# Altium schematic symbol library Schlib1.SchLib: 25 symbols
Pins are listed as number, name and electrical type; pins without a type are passive.

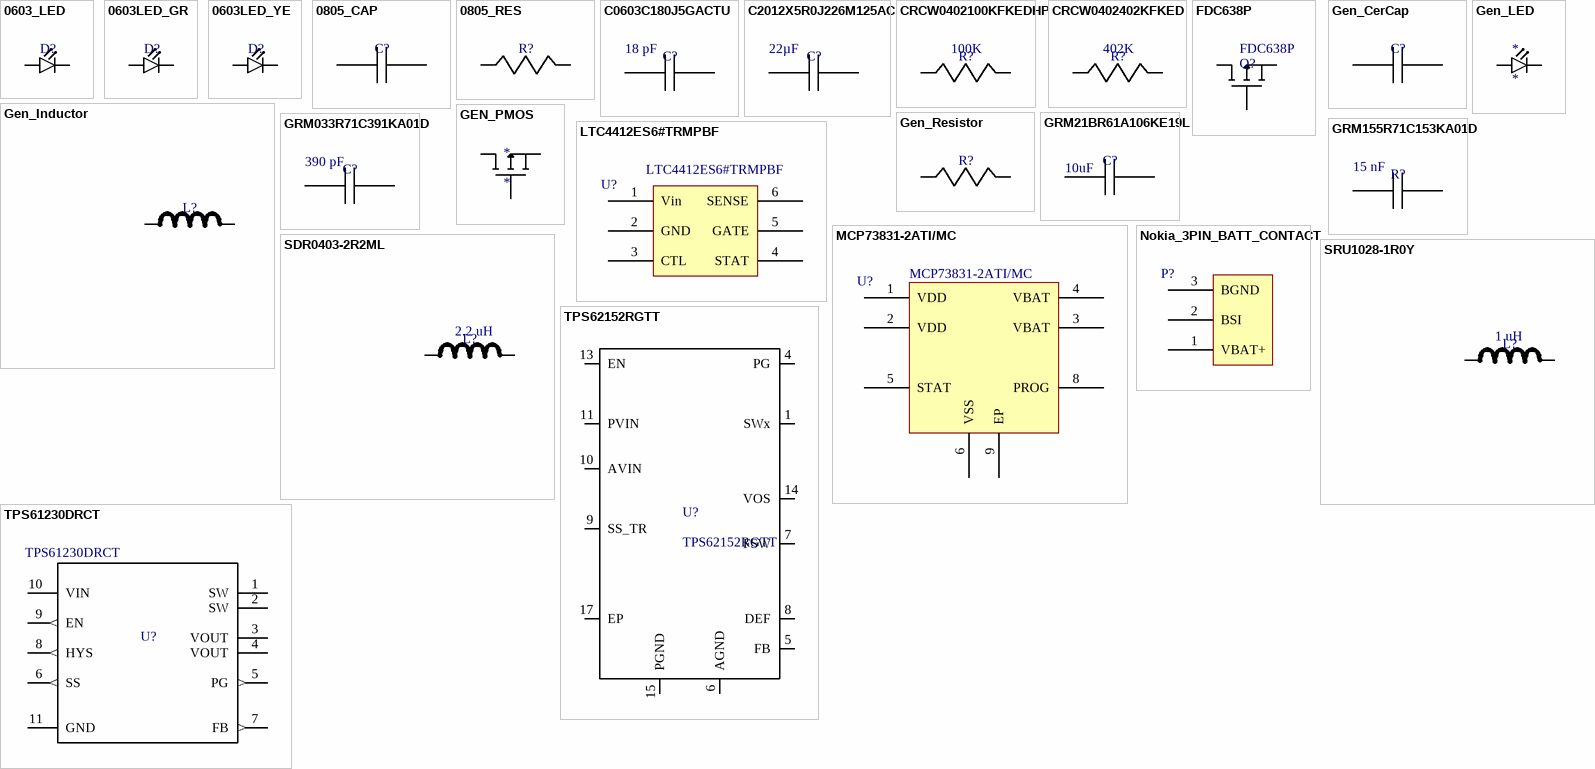
[diagram p0: symbols 0603_LED to TPS62152RGTT]

## 0603_LED
designator D?  (value not drawn)
footprint 0603 _DIODE
pins: 1 A, 2 C

## 0603LED_GR
designator D?  (value not drawn)
footprint 0603 _DIODE_GR
pins: 1, 2

## 0603LED_YE
designator D?  (value not drawn)
footprint 0603 _DIODE_YE
pins: 1, 2

## 0805_CAP
designator C?  (value not drawn)
=Value: *
footprint 0805_CAP
pins: 1, 2

## 0805_RES
designator R?  (value not drawn)
footprint 0805_RES
pins: 1, 2

## C0603C180J5GACTU
designator C?  Capaciteit: 18 pF  (hidden comment: *)
Meerlaagse keramische condensatoren MLCC - SMD/SMT 50volts 18pF C0G 5%; Manufacturer: Kemet; Manufacturer Part Number: C0603C180J5GACTU; Bedrijfstemperatuurbereik: - 55 C to + 125 C; Verpakking / doos: 0603 (1608 metric); Verpakken: Reel; Reeks: C0603C; Type: C0G Dielectric, Commercial; Nominale spanning: 50 V; Code behuizing - in: 0603; Code behuizing - mm: 1608; Hoogte behuizing: 0.8 mm; Lengte behuizing: 1.6 mm; Klasse: 1; Diëlectrisch: C0G (NP0); Verliesfactor DF: 0.5; Afstand tussen de draden: 0.7 mm; Maximale bedrijfstemperatuur: + 125 C; Minimale bedrijfstemperatuur: - 55 C; Productcategorie: 0603 SMD Ceramic Chip Capacitors; Standaard pakket hoeveelheid: 4000; Temperatuur Coëfficiënt / Code: +/- 30 PPM / C; Supplier 1: Mouser; Supplier Part Number 1: 80-C0603C180J5G; RoHS: RoHS Compliant; Category: Meerlaagse keramische condensatoren MLCC - SMD/SMT; Stock 1: 190281; Pricing 1: 1=0.080, 10=0.014, 100=0.010, 1000=0.006, 4000=0.006, 8000=0.005, 48000=0.004, 100000=0.003 (EUR); Product: General Type MLCCs; Klemtype: SMD/SMT; Tolerantie: 5 %; Nominale spanning DC: 50 V; Merk: Kemet; Breedte behuizing: 0.8 mm; Fabrikant: Kemet; RoHS - Mouser: Y; Minimum Order Quantity: 1; Reeling: True; ComponentLink1URL: http://www.kemet.com/kemet/web/homepage/kechome.nsf/vapubfiles/KEM_C1003_C0G_SMD.pdf/$file/KEM_C1003_C0G_SMD.pdf; ComponentLink1Description: http://www.kemet.com/kemet/web/homepage/kechome.nsf/vapubfiles/KEM_C1003_C0G_SMD.pdf/$file/KEM_C1003_C0G_SMD.pdf
footprint 0603_CAP
pins: 1, 2

## C2012X5R0J226M125AC
designator C?  Capacitance: 22µF  (hidden comment: *)
CAP CER 22UF 6.3V 20% X5R 0805; Manufacturer: TDK Corporation; Manufacturer Part Number: C2012X5R0J226M125AC; Supplier 1: Digi-Key; Supplier Part Number 1: 445-1422-1-ND; RoHS: RoHS Compliant; Category: Capacitors; Stock 1: 147939; Pricing 1: 1=0.24, 10=0.204, 100=0.1021, 250=0.07656, 500=0.06762, 1000=0.05878 (EUR); Packaging: Cut Tape (CT); Tolerance: ±20%; Voltage - Rated: 6.3V; Temperature Coefficient: X5R; Mounting Type: Surface Mount, MLCC; Operating Temperature: -55°C ~ 85°C; Applications: General Purpose; Ratings: -; Package / Case: 0805 (2012 Metric); Size / Dimension: 0.079" L x 0.049" W (2.00mm x 1.25mm); Height - Seated (Max): -; Thickness (Max): 0.057" (1.45mm); Lead Spacing: -; Features: -; Lead Style: -; ComponentLink1URL: http://product.tdk.com/en/catalog/datasheets/mlcc_commercial_general_en.pdf; ComponentLink1Description: http://product.tdk.com/en/catalog/datasheets/mlcc_commercial_general_en.pdf
footprint 0805_CAP
pins: 1, 2

## CRCW0402100KFKEDHP
designator R?  Resistance: 100K  (hidden comment: *)
VISHAY DRALORIC - CRCW0402100KFKEDHP - RESISTOR, POWER, 100K, 0.125W, 1%; Product Range: VISHAY - CRCW Series; Power Rating: 125; Resistor Case Style: 0402 [1005 Metric]; Resistor Element Material: Thick Film; Temperature Coefficient: ± 100; Voltage Rating: 50; SVHC: No SVHC (16-Dec-2013); External Width: 1; Resistor Mounting: SMD<!--FANDB--><div class="features-and-benefits-container"></div>; Supplier 1: Farnell; Supplier Part Number 1: 1738877; Manufacturer: VISHAY DRALORIC; RoHS: Y-EX; Stock 1: 20841; Pricing 1: 25=0.032, 100=0.024, 500=0.016, 1000=0.011, 10000=0.008 (EUR); Resistance Tolerance: ± 1%; Packaging: Cut Tape; MSL: MSL 1 - Unlimited; ComponentLink1URL: http://www.farnell.com/datasheets/1703058.pdf; ComponentLink1Description: http://www.farnell.com/datasheets/1703058.pdf; Manufacturer Part Number: CRCW0402100KFKEDHP
footprint 0402_RES
pins: 1, 2

## CRCW0402402KFKED
designator R?  Resistance: 402K  (hidden comment: *)
VISHAY DRALORIC - CRCW0402402KFKED - RESISTOR, 0402, 402K, 1%; Product Range: VISHAY - CRCW Series; Power Rating: 63; Resistor Case Style: 0402 [1005 Metric]; Resistor Element Material: Thick Film; Temperature Coefficient: ± 100; Voltage Rating: 50; SVHC: No SVHC (16-Dec-2013); Resistor Mounting: SMD<!--FANDB--><div class="features-and-benefits-container"></div>; Supplier 1: Farnell; Supplier Part Number 1: 2140992; Manufacturer: VISHAY DRALORIC; RoHS: Y-EX; Stock 1: 14699; Pricing 1: 50=0.005, 250=0.004, 500=0.003, 1000=0.002, 5000=0.0014 (EUR); Resistance Tolerance: ± 1%; Packaging: Cut Tape; MSL: MSL 1 - Unlimited; ComponentLink1URL: http://www.farnell.com/datasheets/1697337.pdf; ComponentLink1Description: http://www.farnell.com/datasheets/1697337.pdf; Manufacturer Part Number: CRCW0402402KFKED
footprint 0402_RES
pins: 1, 2

## FDC638P
designator Q?  Manufacturer Part Number: FDC638P  (hidden comment: *)
MOSFET SSOT-6 P-CH -20V; Manufacturer: Fairchild Semiconductor; Configuratie: Single Quad Drain; Verpakken: Reel; Voorwaartse transconductantie - min: 15 S; Montagetype: SMD/SMT; Polariteit transistor: P-Channel; Kanaalmodus: Enhancement; Daaltijd: 9 ns; Id - Continue afvoerstroom: 4.5 A; Maximale bedrijfstemperatuur: + 150 C; Minimale bedrijfstemperatuur: - 55 C; Pd - Vermogensverlies: 1.6 W; Rds On - Druppelbronweerstand: 48 mOhms; Standaard pakket hoeveelheid: 3000; Typische uitschakelvertragingstijd: 33 ns; Vgs - Doorslagspanning van ingangsbron: 12 V; Product Status: New Product; Supplier 1: Mouser; Supplier Part Number 1: 512-FDC638P; RoHS: RoHS Compliant; Category: MOSFET; Stock 1: 2304; Pricing 1: 1=0.400, 10=0.272, 100=0.180, 1000=0.139, 3000=0.117, 9000=0.113, 24000=0.107, 45000=0.105 (EUR); Verpakking / doos: SSOT-6; Reeks: FDC638P; Merk: Fairchild Semiconductor; Fabrikant: Fairchild Semiconductor; Stijgtijd: 9 ns; Vds - Doorslagspanning van druppelbron: - 20 V; RoHS - Mouser: Y; Minimum Order Quantity: 1; Reeling: True; ComponentLink1URL: http://www.mouser.com/ds/2/149/FDC638P-103274.pdf; ComponentLink1Description: http://www.mouser.com/ds/2/149/FDC638P-103274.pdf
footprint FDC638P
pins: 1 D, 2 G, 3 S

## Gen_CerCap
designator C?  (value not drawn)
pins: 1, 2

## Gen_Inductor
designator L?  (value not drawn)
pins: 1, 2

## Gen_LED
designator *
pins: 1, 2

## GEN_PMOS
designator *
pins: 1 D, 2 G, 3 S

## Gen_Resistor
designator R?  (value not drawn)
pins: 1, 2

## GRM21BR61A106KE19L
designator C?  Capacitance: 10uF  (hidden comment: *)
MURATA - GRM21BR61A106KE19L - CAPACITOR, CERA, 10UF, 10%, 10V, 10%, SMD; Product Range: MURATA - GRM Series; Dielectric Characteristic: X5; Voltage Rating: 10; Ceramic Capacitor Case: 0805 ^2012 Metric]; Supplier 1: Farnell; Supplier Part Number 1: 2396552; Manufacturer: MURATA; RoHS: YES; Stock 1: 20106; Pricing 1: 1=0.042, 250=0.039, 500=0.034, 1000=0.031, 5000=0.022 (EUR); Capacitance Tolerance: ± 10%; MSL: -; ComponentLink1URL: http://www.farnell.com/datasheets/608985.pdf; ComponentLink1Description: http://www.farnell.com/datasheets/608985.pdf; Manufacturer Part Number: GRM21BR61A106KE19L
footprint 0805_CAP
pins: 1, 2

## GRM033R71C391KA01D
designator C?  Capaciteit: 390 pF  (hidden comment: *)
Meerlaagse keramische condensatoren MLCC - SMD/SMT 390pF 16 volts 10%; Manufacturer: Murata Electronics; Manufacturer Part Number: GRM033R71C391KA01D; Bedrijfstemperatuurbereik: - 55 C to + 125 C; Verpakking / doos: 0201 (0603 metric); Verpakken: Reel; Reeks: GRM; Type: General Purpose MLCC; Nominale spanning: 16 V; Code behuizing - in: 0201; Hoogte behuizing: 0.3 mm; Lengte behuizing: 0.6 mm; Diëlectrisch: X7R; Fabrikant: Murata; Maximale bedrijfstemperatuur: + 125 C; Minimale bedrijfstemperatuur: - 55 C; Standaard pakket hoeveelheid: 15000; Temperatuur Coëfficiënt / Code: +/- 15 %; Code behuizing - mm: 0603; Supplier 1: Mouser; Supplier Part Number 1: 81-GRM033R71C391KA1D; RoHS: RoHS Compliant; Category: Meerlaagse keramische condensatoren MLCC - SMD/SMT; Stock 1: 6120; Pricing 1: 1=0.088, 10=0.011, 100=0.006, 1000=0.005, 2500=0.004, 10000=0.003, 15000=0.003 (EUR); Product: General Type MLCCs; Klemtype: SMD/SMT; Tolerantie: 10 %; Nominale spanning DC: 16 V; Merk: Murata Electronics; Breedte behuizing: 0.3 mm; RoHS - Mouser: Y; Minimum Order Quantity: 1; Reeling: True; ComponentLink1URL: http://psearch.murata.com/capacitor/product/GRM033R71C391KA01%23.pdf; ComponentLink1Description: http://psearch.murata.com/capacitor/product/GRM033R71C391KA01%23.pdf
footprint 0603_CAP
pins: 1, 2

## GRM155R71C153KA01D
designator R?  Capaciteit: 15 nF  (hidden comment: *)
Meerlaagse keramische condensatoren MLCC - SMD/SMT 0402 0.015uF 16volts X7R 10%; Manufacturer: Murata Electronics; Manufacturer Part Number: GRM155R71C153KA01D; Bedrijfstemperatuurbereik: - 55 C to + 125 C; Verpakking / doos: 0402 (1005 metric); Verpakken: Reel; Reeks: GRM; Nominale spanning: 16 V; Code behuizing - in: 0402; Code behuizing - mm: 1005; Hoogte behuizing: 0.5 mm; Lengte behuizing: 1 mm; Fabrikant: Murata; Maximale bedrijfstemperatuur: + 125 C; Minimale bedrijfstemperatuur: - 55 C; Productcategorie: Low & Medium Capacitance SMD Ceramic Chip Capacitors; Standaard pakket hoeveelheid: 10000; Temperatuur Coëfficiënt / Code: +/- 15 %; Supplier 1: Mouser; Supplier Part Number 1: 81-GRM155R71C153KA1D; RoHS: RoHS Compliant; Category: Meerlaagse keramische condensatoren MLCC - SMD/SMT; Stock 1: 72519; Pricing 1: 1=0.112, 10=0.014, 100=0.008, 1000=0.006, 10000=0.005, 20000=0.004, 100000=0.003 (EUR); Product: General Type MLCCs; Klemtype: SMD/SMT; Tolerantie: 10 %; Type: General Purpose MLCC; Nominale spanning DC: 16 V; Merk: Murata Electronics; Breedte behuizing: 0.5 mm; Diëlectrisch: X7R; RoHS - Mouser: Y; Minimum Order Quantity: 1; Reeling: True; ComponentLink1URL: http://psearch.murata.com/capacitor/product/GRM155R71C153KA01%23.pdf; ComponentLink1Description: http://psearch.murata.com/capacitor/product/GRM155R71C153KA01%23.pdf
footprint 0402_CAP
pins: 1, 2

## LTC4412ES6#TRMPBF
designator U?  Manufacturer Part Number: LTC4412ES6#TRMPBF  (hidden comment: *)
IC OR CTRLR SRC SELECT TSOT23-6; Manufacturer: Linear Technology; FET Type: P-Channel; Ratio - Input:Output: 2:1; Internal Switch(s): No; Delay Time - ON: 110µs; Delay Time - OFF: 13µs; Current - Supply: 15µA; Voltage - Supply: 2.5 V ~ 28 V; Supplier 1: Digi-Key; Supplier Part Number 1: LTC4412ES6#TRMPBFCT-ND; RoHS: RoHS Compliant; Category: Integrated Circuits (ICs); Stock 1: 19945; Pricing 1: 1=2.79, 25=2.4972, 100=2.2477 (EUR); Packaging: Cut Tape (CT); Type: Source Selector Switch; Current - Output (Max): -; Applications: Handheld/Mobile Devices; Operating Temperature: -40°C ~ 85°C; Mounting Type: Surface Mount; Package / Case: SOT-23-6 Thin, TSOT-23-6; Supplier Device Package: TSOT-23-6; ComponentLink1URL: http://www.linear.com/docs/1527; ComponentLink1Description: http://www.linear.com/docs/1527
footprint SOT95P280X110-6N (SOT23, 6-Leads, Body 2.90x2.80mm, Pitch 0.95mm, IPC Medium Density)
pins: 1 Vin, 2 GND, 3 CTL, 4 STAT, 5 GATE, 6 SENSE

## MCP73831-2ATI/MC
designator U?  Manufacturer Part Number: MCP73831-2ATI/MC  (hidden comment: *)
Batterijbeheer Li-Ion/Li-Poly Charg Mgnt 4.2V Vreg out; Manufacturer: Microchip Technology; Uitgangsstroom: 15 mA to 500 mA; Verpakking / doos: DFN; Verpakken: Tube; Montagetype: SMD/SMT; Batterijtype: Li-Ion, Li-Poly; Fabrikant: Microchip; Maximale bedrijfstemperatuur: + 85 C; Minimale bedrijfstemperatuur: - 40 C; Productcategorie: Battery Management; Standaard pakket hoeveelheid: 150; Supplier 1: Mouser; Supplier Part Number 1: 579-MCP73831-2ATI/MC; RoHS: RoHS Compliant; Category: Batterijbeheer; Stock 1: 0; Pricing 1: 1=0.512, 10=0.472, 25=0.392, 100=0.360 (EUR); Uitgangspanning: 4.2 V; Merk: Microchip Technology; Producttype: Charge Management; RoHS - Mouser: Y; Minimum Order Quantity: 1; Reeling: False; ComponentLink1URL: http://www.mouser.com/ds/2/268/21984e-53484.pdf; ComponentLink1Description: http://www.mouser.com/ds/2/268/21984e-53484.pdf
footprint PQFN50P300X200X5_HS-9N (PQFN, 8-Leads, Body 3.00x2.00mm, Pitch 0.50mm, Thermal Pad 1.75x1.45mm, IPC Medium Density)
pins: 1 VDD, 2 VDD, 3 VBAT, 4 VBAT, 5 STAT, 6 VSS, 8 PROG, 9 EP

## Nokia_3PIN_BATT_CONTACT
designator P?, comment Nokia 3pin pogo connector  (value not drawn)
footprint Nokia_3P_batt_conn
pins: 1 VBAT+, 2 BSI, 3 BGND

## SDR0403-2R2ML
designator L?  Inductantie: 2.2 uH  (hidden comment: *)
Vaste smoorspoelen 2.2uH 20% SMD 0403; Manufacturer: Bourns; Manufacturer Part Number: SDR0403-2R2ML; Maximale DC stroom: 2.6 A; Maximale DC weerstand: 47 mOhms; Verpakken: Reel; Q minimaal: 28; Zelfresonantiefrequentie: 80 MHz; Reeks: SDR0403; Klemtype: SMD/SMT; Lengte behuizing: 4.5 mm; Breedte behuizing: 3.2 mm; Productcategorie: Inductors; Standaard pakket hoeveelheid: 2000; Supplier 1: Mouser; Supplier Part Number 1: 652-SDR0403-2R2ML; RoHS: RoHS Compliant; Category: Vaste smoorspoelen; Stock 1: 11347; Pricing 1: 1=0.378, 10=0.279, 100=0.257, 250=0.244, 500=0.202, 1000=0.171, 2000=0.169 (EUR); Tolerantie: 20 %; Merk: Bourns; Fabrikant: Bourns; RoHS - Mouser: Y; Minimum Order Quantity: 1; Reeling: True; ComponentLink1URL: http://www.bourns.com/data/global/pdfs/sdr0403.pdf; ComponentLink1Description: http://www.bourns.com/data/global/pdfs/sdr0403.pdf
footprint SDR0403
pins: 1, 2

## SRU1028-1R0Y
designator L?  Inductantie: 1 uH  (hidden comment: *)
Vaste smoorspoelen 1uH 30% SMD 1028; Manufacturer: Bourns; Manufacturer Part Number: SRU1028-1R0Y; Kernmateriaal: Ferrite DR/RI; Maximale DC stroom: 7 A; Maximale DC weerstand: 4.9 mOhms; Bedrijfstemperatuurbereik: - 40 C to + 125 C; Verpakking / doos: 1028; Verpakken: Reel; Q minimaal: 14; Zelfresonantiefrequentie: 100 MHz; Reeks: SRU1028; Afscherming: Shielded; Klemtype: SMD/SMT; Type: Shielded SMD Power Inductors; Hoogte behuizing: 2.8 mm; Lengte behuizing: 10 mm; Productcategorie: Inductors; Standaard pakket hoeveelheid: 1000; Testfrequentie: 7.96 MHz; Supplier 1: Mouser; Supplier Part Number 1: 652-SRU1028-1R0Y; RoHS: RoHS Compliant; Category: Vaste smoorspoelen; Stock 1: 0; Pricing 1: 1=0.660, 10=0.619, 50=0.495, 100=0.470, 200=0.429, 500=0.379, 1000=0.325 (EUR); Product: Inductors; Tolerantie: 30 %; Merk: Bourns; Breedte behuizing: 10 mm; Fabrikant: Bourns; RoHS - Mouser: Y; Minimum Order Quantity: 1; Reeling: True; ComponentLink1URL: http://www.mouser.com/ds/2/54/SRU1028-54512.pdf; ComponentLink1Description: http://www.mouser.com/ds/2/54/SRU1028-54512.pdf
footprint SRU1028
pins: 1, 2

## TPS61230DRCT
designator U?
Manufacturer: Texas Instruments; Ingangsspanning: 2.3 V to 5.5 V; Ingangsspanning MAX.: 5.5 V; Aantal uitgangen: 1 Output; Bedrijfstemperatuurbereik: - 40 C to + 85 C; Uitgangsstroom: 2.1 A; Uitgangspanning: 2.5 V to 5.5 V; Verpakking / doos: VSON-10; Verpakken: Reel; Montagetype: SMD/SMT; Uitschakeling: Shutdown; Schakelfrequentie: 2 MHz; Topologie: Boost; Ingangsspanning MIN: 2.3 V; Maximale bedrijfstemperatuur: + 85 C; Minimale bedrijfstemperatuur: - 40 C; Product Status: New Product; Supplier 1: Mouser; Supplier Part Number 1: 595-TPS61230DRCT; RoHS: RoHS Compliant; Category: Spanningsregelaars - Schakelende regelaars; Stock 1: 464; Pricing 1: 1=2.66, 10=2.38, 25=2.14, 50=2.04, 100=1.94, 250=1.75, 500=1.58, 750=1.42, 1000=1.38 (EUR); Reeks: TPS61230; Type: Step-Up Converter; Merk: Texas Instruments; Fabrikant: Texas Instruments; Voedingsspanning - Min: 2.3 V; RoHS - Mouser: Y; Minimum Order Quantity: 1; Reeling: True; ComponentLink1URL: http://www.mouser.com/ds/2/405/slvsaq2b-350046.pdf; ComponentLink1Description: http://www.mouser.com/ds/2/405/slvsaq2b-350046.pdf; Manufacturer Part Number: TPS61230DRCT
footprint TPS61230DRCR
pins: 1 SW (power), 2 SW (power), 3 VOUT (power), 4 VOUT (power), 5 PG (out), 6 SS (out), 7 FB (out), 8 HYS (out), 9 EN (out), 10 VIN (power), 11 GND (power)

## TPS62152RGTT
designator U?
Manufacturer: Texas Instruments; Output Type: Fixed; Number of Outputs: 1; Voltage - Output: 3.3V; Voltage - Input: 3 V ~ 17 V; Frequency - Switching: 2.5MHz; Current - Output: 1A; Synchronous Rectifier: Yes; Supplier 1: Digi-Key; RoHS: RoHS Compliant; Category: Integrated Circuits (ICs); Stock 1: 1028; Pricing 1: 1=2.99, 10=2.696, 25=2.4148, 100=2.1715 (USD); Packaging: Cut Tape (CT); Type: Step-Down (Buck); Operating Temperature: -40°C ~ 85°C; Mounting Type: Surface Mount; Package / Case: 16-VFQFN Exposed Pad; Supplier Device Package: 16-QFN (3x3); ComponentLink1URL: http://www.ti.com/lit/ds/symlink/tps62151.pdf; ComponentLink1Description: http://www.ti.com/lit/ds/symlink/tps62151.pdf; Supplier Part Number 1: 296-30009-1-ND
footprint TPS62152RGTR
pins: 1 SWx, 2 SW, 3 SW, 4 PG, 5 FB, 6 AGND, 7 FSW, 8 DEF, 9 SS_TR, 10 AVIN, 11 PVIN, 12 PVIN, 13 EN, 14 VOS, 15 PGND, 16 PGND, 17 EP